# Altium footprint library aroshaD.PcbLib: 57 footprints (part 1 of 4)
Each footprint in its own frame and in the unit in brackets; x right, y up, seen from the top. Pads: shape width x height; smd on the part's side, far side on the other; paste and mask are expansions set on the pad; w line width, h text height; cw(c..) or ccw(c..) is an arc to the next point about the centre after c.
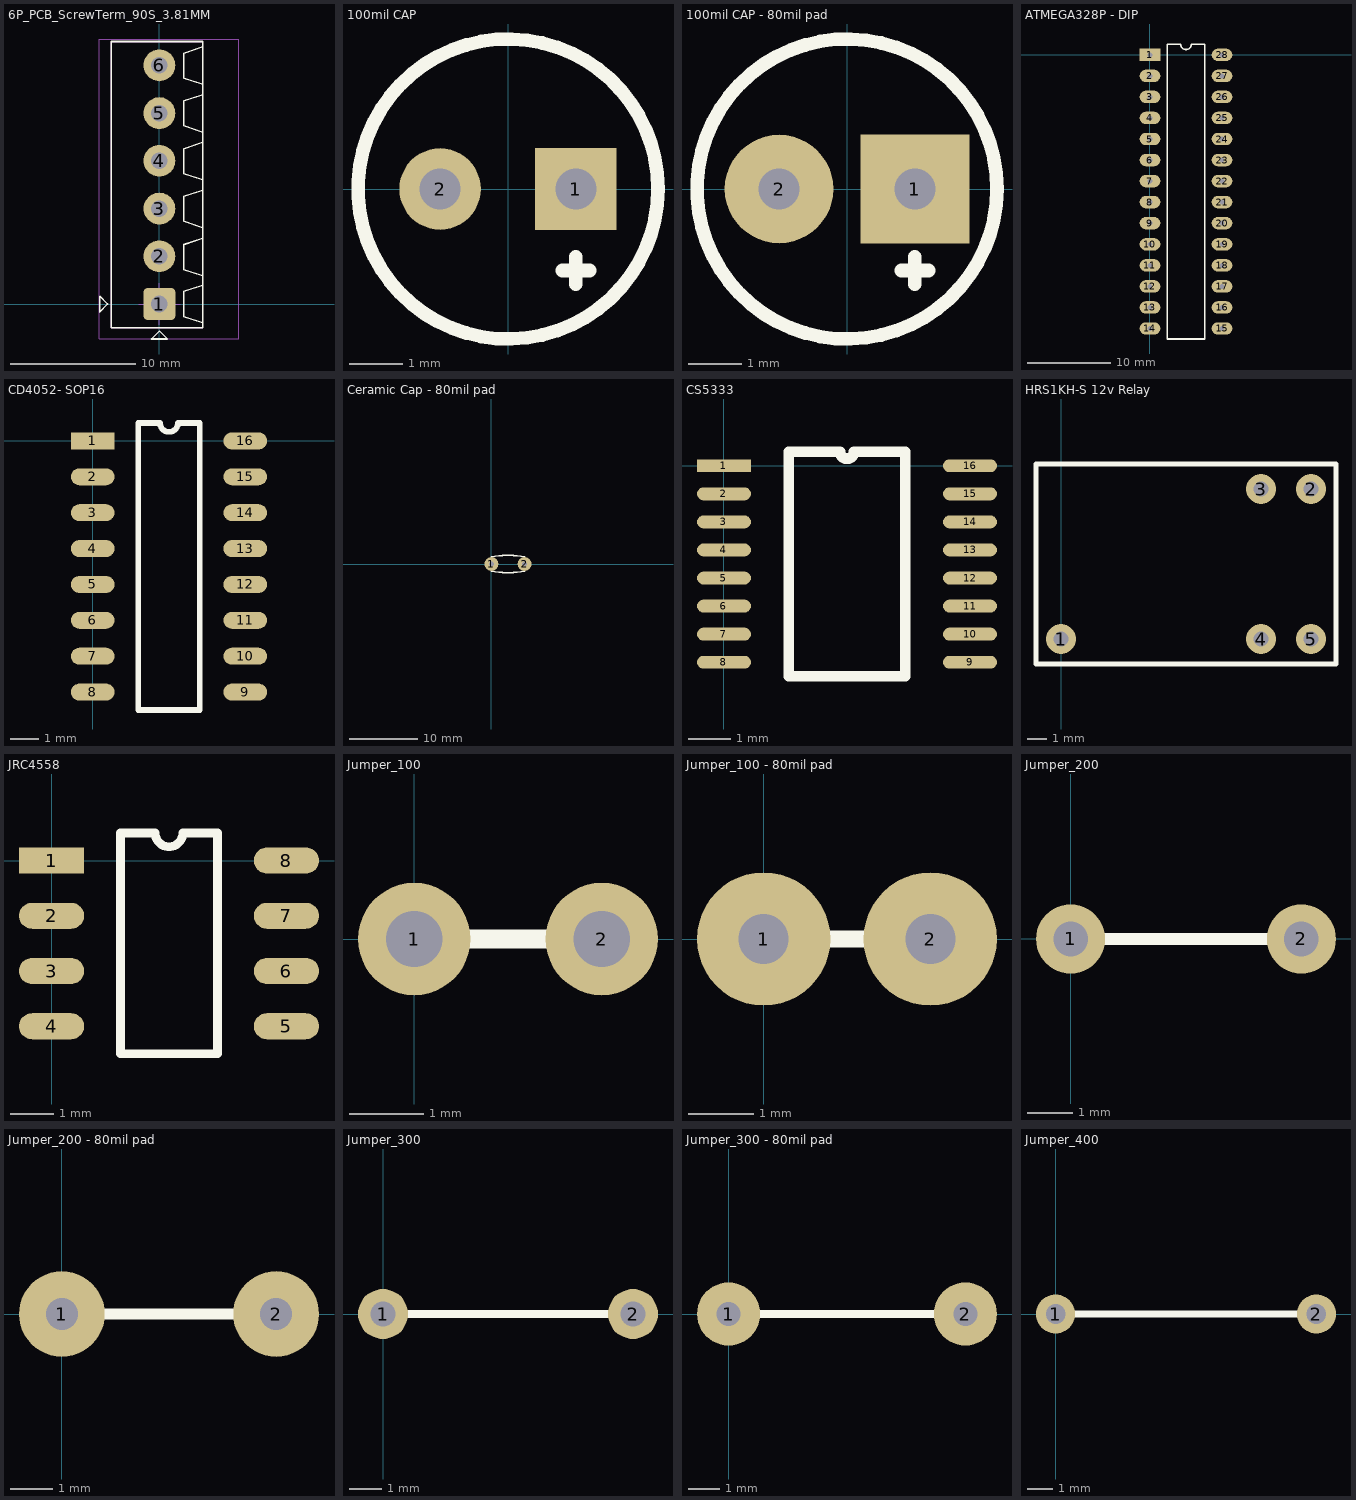
[diagram p0: the footprints below, top view; thin cyan lines are the x and y axes]

## 6P_PCB_ScrewTerm_90S_3.81MM [mil] "TERM BLOCK 6POS SIDE ENT STACKABLE 3.81MM"
height 334.65
pads (6):
  rrect25% 100x100 hole 52: 1(0,0)
  round 100 hole 52: 2(0,150) 3(0,300) 4(0,450) 5(0,600) 6(0,750)
Top Overlay:
  lines w5: 135.83,-59.06 76.78,-39.37 76.78,39.37 135.83,59.06 ; 135.83,88.58 76.78,108.27 76.78,187.01 135.83,206.69 ; 135.83,240 76.78,259.69 76.78,338.43 135.83,358.11 ; 135.83,390 76.78,409.69 76.78,488.43 135.83,508.11 ; 135.83,540 76.78,559.68 76.78,638.43 135.83,658.11 ; 135.83,690 76.78,709.68 76.78,788.43 135.83,808.11 ; -188,-25 -188,25 -163,0 -188,-25 ; -151.57,-75 135.83,-75 135.83,825 -151.57,825 -151.57,-75 ; -25,-110 0,-85 25,-110 -25,-110
Mechanical 13:
  lines w3: -151.57,-75 -151.57,825 135.83,825 135.83,-75 -151.57,-75
Mechanical 15:
  lines w3: -65,0 65,0 ; 0,-65 0,65 ; -190,-110 250,-110 250,832.88 -190,832.88 -190,-110
3D body "c-1776113-6-o-3d.stp": height 335.25, standoff -137.2, extent -151.57,-75 135.83,825

## 100mil CAP [mil]
pads (2):
  rect 60x60 hole 30: 1(50,0)
  round 60 hole 30: 2(-50,0)
Top Overlay:
  circle w10: c0,0 r110.42
  lines w10: 40,-60 60,-60 ; 50,-70 50,-50

## 100mil CAP - 80mil pad [mil]
pads (2):
  rect 80x80 hole 30: 1(50,0)
  round 80 hole 30: 2(-50,0)
Top Overlay:
  circle w10: c0,0 r110.42
  lines w10: 40,-60 60,-60 ; 50,-70 50,-50

## ATMEGA328P - DIP [mm]
pads (28):
  rect 2.5x1.5 hole 0.6: 1(0,0)
  oval 2.5x1.5 hole 0.6: 2(0,-2.54) 3(0,-5.08) 4(0,-7.62) 5(0,-10.16) 6(0,-12.7) 7(0,-15.24) 8(0,-17.78) 9(0,-20.32) 10(0,-22.86) 11(0,-25.4) 12(0,-27.94) 13(0,-30.48) 14(0,-33.02) 15(8.7,-33.02) 16(8.7,-30.48) 17(8.7,-27.94) 18(8.7,-25.4) 19(8.7,-22.86) 20(8.7,-20.32) 21(8.7,-17.78) 22(8.7,-15.24) 23(8.7,-12.7) 24(8.7,-10.16) 25(8.7,-7.62) 26(8.7,-5.08) 27(8.7,-2.54) 28(8.7,0)
Top Overlay:
  lines w0.2: 2.085,-34.29 6.615,-34.29 6.615,1.27 4.985,1.27 cw(c4.35,1.27) 3.715,1.27 2.085,1.27 2.085,-34.29

## CD4052- SOP16 [mm]
pads (16):
  rect 1.55x0.6 smd: 1(0,0)
  oval 1.55x0.6 smd: 2(0,-1.27) 3(0,-2.54) 4(0,-3.81) 5(0,-5.08) 6(0,-6.35) 7(0,-7.62) 8(0,-8.89) 9(5.4,-8.89) 10(5.4,-7.62) 11(5.4,-6.35) 12(5.4,-5.08) 13(5.4,-3.81) 14(5.4,-2.54) 15(5.4,-1.27) 16(5.4,0)
Top Overlay:
  lines w0.2: 1.61,-9.525 1.61,0.635 2.382,0.635 ccw(c2.7,0.635) 3.017,0.635 3.79,0.635 3.79,-9.525 1.61,-9.525

## Ceramic Cap - 80mil pad [mil]
pads (2):
  round 80 hole 30: 1(0,0) 2(190,0)
Top Overlay:
  lines w10: 0,-40 ccw(c95,405) 190,-40 ; 0,40 cw(c95,-405) 190,40

## CS5333 [mil]
pads (16):
  rect 50x12 smd: 1(0,0)
  oval 50x12 smd: 2(0,-26) 3(0,-52) 4(0,-78) 5(0,-104) 6(0,-130) 7(0,-156) 8(0,-182) 9(227.9,-182) 10(227.9,-156) 11(227.9,-130) 12(227.9,-104) 13(227.9,-78) 14(227.9,-52) 15(227.9,-26) 16(227.9,0)
Top Overlay:
  lines w10: 60,-195 167.9,-195 167.9,13 120.45,13 cw(c113.95,13) 107.45,13 60,13 60,-195

## HRS1KH-S 12v Relay [mil]
pads (5):
  round 60 hole 30: 1(0,-500) 2(500,-200) 3(400,-200) 4(400,-500) 5(500,-500)
Top Overlay:
  lines w10: -50,-550 550,-550 550,-150 -50,-150 -50,-550

## JRC4558 [mm]
pads (8):
  rect 1.5x0.6 smd: 1(0,0)
  oval 1.5x0.6 smd: 2(0,-1.27) 3(0,-2.54) 4(0,-3.81) 5(5.4,-3.81) 6(5.4,-2.54) 7(5.4,-1.27) 8(5.4,0)
Top Overlay:
  lines w0.2: 1.585,-4.445 1.585,0.635 2.382,0.635 ccw(c2.7,0.635) 3.017,0.635 3.815,0.635 3.815,-4.445 1.585,-4.445

## Jumper_100 [mil]
pads (2):
  round 60 hole 30: 1(0,0) 2(100,0)
Top Overlay:
  lines w10: 0,0 100,0

## Jumper_100 - 80mil pad [mil]
pads (2):
  round 80 hole 30: 1(0,0) 2(100,0)
Top Overlay:
  lines w10: 0,0 100,0

## Jumper_200 [mil]
pads (2):
  round 60 hole 30: 1(0,0) 2(200,0)
Top Overlay:
  lines w10: 0,0 200,0

## Jumper_200 - 80mil pad [mil]
pads (2):
  round 80 hole 30: 1(0,0) 2(200,0)
Top Overlay:
  lines w10: 0,0 200,0

## Jumper_300 [mil]
pads (2):
  round 60 hole 30: 1(0,0) 2(300,0)
Top Overlay:
  lines w10: 0,0 300,0

## Jumper_300 - 80mil pad [mil]
pads (2):
  round 80 hole 30: 1(0,0) 2(300,0)
Top Overlay:
  lines w10: 0,0 300,0

## Jumper_400 [mil]
pads (2):
  round 60 hole 30: 1(0,0) 2(400,0)
Top Overlay:
  lines w10: 0,0 400,0